# EAGLE library part KX126-1063 (library Juan_pedometer)
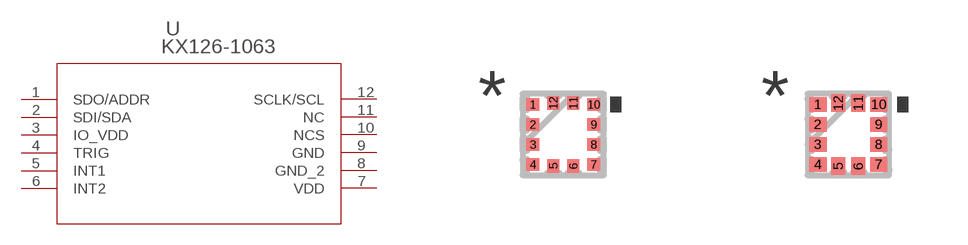
[diagram p0: symbol with the pads of LGA12_2X2X0P9_KNX; footprints LGA12_2X2X0P9_KNX, LGA12_2X2X0P9_KNX-M]

Designator prefix U

## KX126-1063 (COPYRIGHT: Copyright (C) 2021 Ultra Librarian. All rights reserved.; DIGI-KEY_PART_NUMBER_1: 1191-1058-2-ND; DIGI-KEY_PART_NUMBER_2: 1191-1058-1-ND; DIGI-KEY_PART_NUMBER_3: 1191-1058-6-ND; MANUFACTURER_PART_NUMBER: KX126-1063; MFR_NAME: Kionix)  [LGA12_2X2X0P9_KNX]
1  SDO/ADDR  in
2  SDI/SDA  in
3  IO_VDD  pwr
4  TRIG  in
5  INT1  out
6  INT2  out
7  VDD  pwr
8  GND_2  pas
9  GND  pas
10  NCS  in
11  NC  nc
12  SCLK/SCL  in

## KX126-1063LGA12_2X2X0P9_KNX-M (COPYRIGHT: Copyright (C) 2021 Ultra Librarian. All rights reserved.; DIGI-KEY_PART_NUMBER_1: 1191-1058-2-ND; DIGI-KEY_PART_NUMBER_2: 1191-1058-1-ND; DIGI-KEY_PART_NUMBER_3: 1191-1058-6-ND; MANUFACTURER_PART_NUMBER: KX126-1063; MFR_NAME: Kionix)  [LGA12_2X2X0P9_KNX-M]
Pads as for LGA12_2X2X0P9_KNX

## KX126-1063LGA12_2X2X0P9_KNX-L (COPYRIGHT: Copyright (C) 2021 Ultra Librarian. All rights reserved.; DIGI-KEY_PART_NUMBER_1: 1191-1058-2-ND; DIGI-KEY_PART_NUMBER_2: 1191-1058-1-ND; DIGI-KEY_PART_NUMBER_3: 1191-1058-6-ND; MANUFACTURER_PART_NUMBER: KX126-1063; MFR_NAME: Kionix)  [LGA12_2X2X0P9_KNX-L]
Pads as for LGA12_2X2X0P9_KNX

## Footprint LGA12_2X2X0P9_KNX (pad centres in mm)
smd 0.33 x 0.305: 1 -0.762,0.75; 2 -0.762,0.25; 3 -0.762,-0.25; 4 -0.762,-0.75; 7 0.762,-0.75; 8 0.762,-0.25; 9 0.762,0.25; 10 0.762,0.75
smd 0.305 x 0.33: 5 -0.25,-0.787; 6 0.25,-0.787; 11 0.25,0.787; 12 -0.25,0.787

## Footprint LGA12_2X2X0P9_KNX-M (pad centres in mm)
smd 0.432 x 0.356: 1 -0.762,0.75; 2 -0.762,0.25; 3 -0.762,-0.25; 4 -0.762,-0.75; 7 0.762,-0.75; 8 0.762,-0.25; 9 0.762,0.25; 10 0.762,0.75
smd 0.356 x 0.432: 5 -0.25,-0.787; 6 0.25,-0.787; 11 0.25,0.787; 12 -0.25,0.787

## Footprint LGA12_2X2X0P9_KNX-L (pad centres in mm)
smd 0.229 x 0.254: 1 -0.762,0.75; 2 -0.762,0.25; 3 -0.762,-0.25; 4 -0.762,-0.75; 7 0.762,-0.75; 8 0.762,-0.25; 9 0.762,0.25; 10 0.762,0.75
smd 0.254 x 0.229: 5 -0.25,-0.787; 6 0.25,-0.787; 11 0.25,0.787; 12 -0.25,0.787